# Altium schematic symbol library FDN304PZ.SchLib: 1 symbol
Pins are listed as number, name and electrical type; pins without a type are passive.

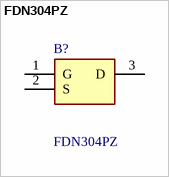
[diagram p0: symbol FDN304PZ]

## FDN304PZ
designator B?
FDN304PZ, P-channel MOSFET Transistor 2.4 A 20 V, 3-Pin SuperSOT; Manufacturer_Name: onsemi; Geometry.Height: 1.12mm; Mouser Part Number: 512-FDN304PZ; Mouser Price/Stock: https://www.mouser.co.uk/ProductDetail/onsemi-Fairchild/FDN304PZ?qs=MA%252B40jw2YMpyjgZQyVD8yA%3D%3D; Manufacturer_Part_Number: FDN304PZ; Datasheet Link: *
footprint SOT95P251X112-3N
pins: 1 G, 2 S, 3 D